# EAGLE library part USBN9603 (library mita-akiba)
USBN9603/4 USB host controller National Instruments
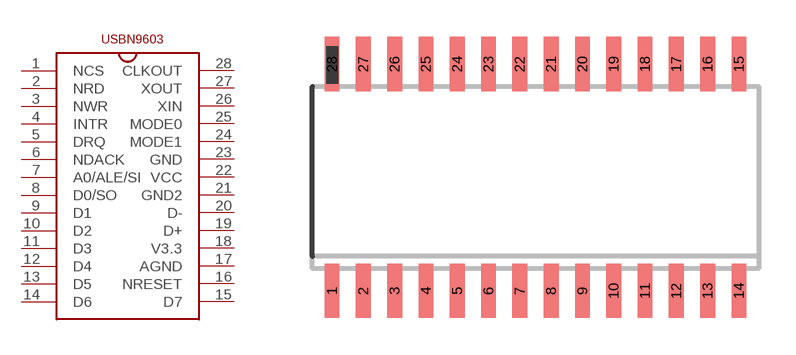
[diagram p1: symbol with the pads of SO28W; footprint SO28W]

Designator prefix -

## USBN9603  [SO28W]
1  NCS  in
2  NRD  in
3  NWR
4  INTR  out
5  DRQ  out
6  NDACK  in
7  A0/ALE/SI  in
8  D0/SO
9  D1
10  D2
11  D3
12  D4
13  D5
14  D6
15  D7
16  NRESET  in
17  AGND  pwr
18  V3.3
19  D+
20  D-
21  GND2  pwr
22  VCC  pwr
23  GND  pwr
24  MODE1  in
25  MODE0  in
26  XIN
27  XOUT
28  CLKOUT  out

## Footprint SO28W (pad centres in mm)
SMALL OUTLINE INTEGRATED CIRCUIT wide body 7.5 mm/JEDEC MO-119AB
smd 0.6 x 2.2: 1 -8.255,-4.6; 2 -6.985,-4.6; 3 -5.715,-4.6; 4 -4.445,-4.6; 5 -3.175,-4.6; 6 -1.905,-4.6; 7 -0.635,-4.6; 8 0.635,-4.6; 9 1.905,-4.6; 10 3.175,-4.6; 11 4.445,-4.6; 12 5.715,-4.6; 13 6.985,-4.6; 14 8.255,-4.6; 15 8.255,4.6; 16 6.985,4.6; 17 5.715,4.6; 18 4.445,4.6; 19 3.175,4.6; 20 1.905,4.6; 21 0.635,4.6; 22 -0.635,4.6; 23 -1.905,4.6; 24 -3.175,4.6; 25 -4.445,4.6; 26 -5.715,4.6; 27 -6.985,4.6; 28 -8.255,4.6